# EAGLE library part BM06B-SRSS-TB (library Con_JST_SH)
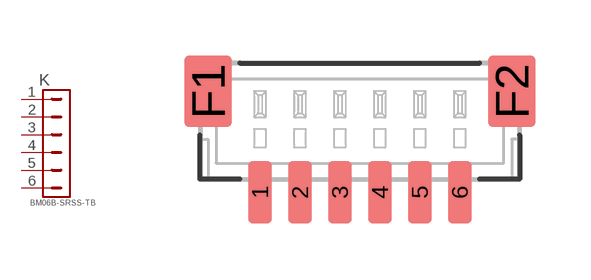
[diagram p0: symbol with the pads of BM06B-SRSS-TB; footprint BM06B-SRSS-TB]

Designator prefix K

## BM06B-SRSS-TB  [BM06B-SRSS-TB]
1  1  pas
2  2  pas
3  3  pas
4  4  pas
5  5  pas
6  6  pas

## Footprint BM06B-SRSS-TB (pad centres in mm)
smd 0.6 x 1.55: 1 -2.5,-1.325; 2 -1.5,-1.325; 3 -0.5,-1.325; 4 0.5,-1.325; 5 1.5,-1.325; 6 2.5,-1.325
smd 1.2 x 1.8: F1 -3.8,1.2; F2 3.8,1.2